# Altium schematic symbol library T_CM_pinout_12-43.Schlib: 1 symbol
Pins are listed as number, name and electrical type; pins without a type are passive.

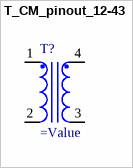
[diagram p0: symbol T_CM_pinout_12-43]

## T_CM_pinout_12-43
designator T?
Common-Mode Choke
pins: 1 IN1, 2 IN2, 3 OUT2, 4 OUT1